# Altium schematic symbol library LT6234_DFN.SchLib: 1 symbol
Pins are listed as number, name and electrical type; pins without a type are passive.

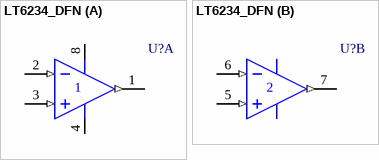
[diagram p0: symbol LT6234_DFN]

## LT6234_DFN
designator U?, comment LT6234  (value not drawn)
Dual Rail-to-Rail I/O Operational Amplifier
part A pins: 1 OUT (out), 2 IN- (in), 3 IN+ (in), 4 V-, 8 V+
part B pins: 5 IN+ (in), 6 IN- (in), 7 OUT (out)
1 alternate drawing of the same symbol